# EAGLE library part MCP16251/2 (library MCP16251-2)
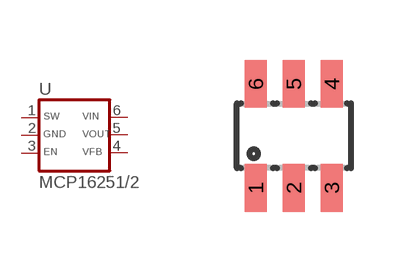
[diagram p0: symbol with the pads of SOT-23-6; footprint SOT-23-6]

Designator prefix -

## MCP16251/2  [SOT-23-6]
1  SW  pas
2  GND  pas
3  EN  pas
4  VFB  pas
5  VOUT  pas
6  VIN  pas

## Footprint SOT-23-6 (pad centres in mm)
smd 0.55 x 1.2: 1 -0.95,-1.3; 2 0,-1.3; 3 0.95,-1.3; 4 0.95,1.3; 5 0,1.3; 6 -0.95,1.3